# EAGLE library part ULN2003 (library gost_micro)
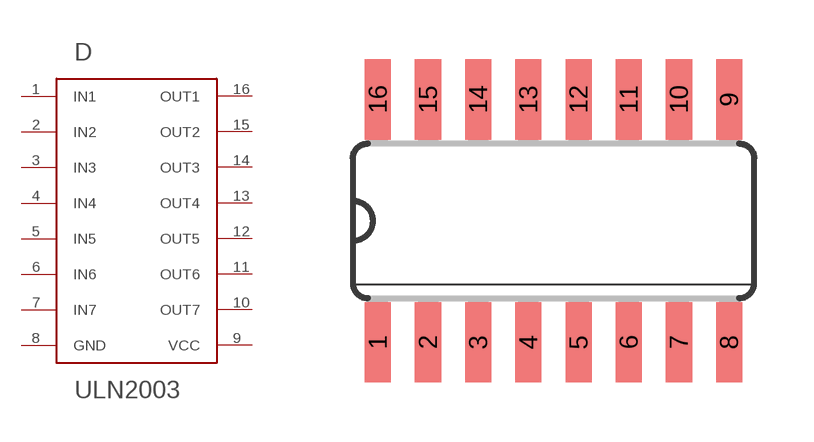
[diagram p17: symbol with the pads of SO16; footprint SO16]

Designator prefix D

## ULN2003ADR (HEIGHT: 3)  [SO16]
1  IN1
2  IN2
3  IN3
4  IN4
5  IN5
6  IN6
7  IN7
8  GND
9  VCC
10  OUT7
11  OUT6
12  OUT5
13  OUT4
14  OUT3
15  OUT2
16  OUT1

## Footprint SO16 (pad centres in mm)
Small Outline package 150 mil
smd 0.66 x 2.032: 1 -4.445,-3.073; 2 -3.175,-3.073; 3 -1.905,-3.073; 4 -0.635,-3.073; 5 0.635,-3.073; 6 1.905,-3.073; 7 3.175,-3.073; 8 4.445,-3.073; 9 4.445,3.073; 10 3.175,3.073; 11 1.905,3.073; 12 0.635,3.073; 13 -0.635,3.073; 14 -1.905,3.073; 15 -3.175,3.073; 16 -4.445,3.073